# Altium schematic symbol library SW_SPST-12X34.SchLib: 1 symbol
Pins are listed as number, name and electrical type; pins without a type are passive.

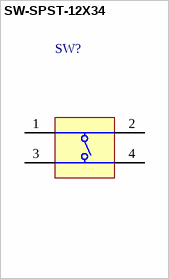
[diagram p0: symbol SW-SPST-12X34]

## SW-SPST-12X34
designator SW?
pins: 1 T1, 2 T2, 3 T3, 4 T3